# EAGLE library part DIL08 (library arno)
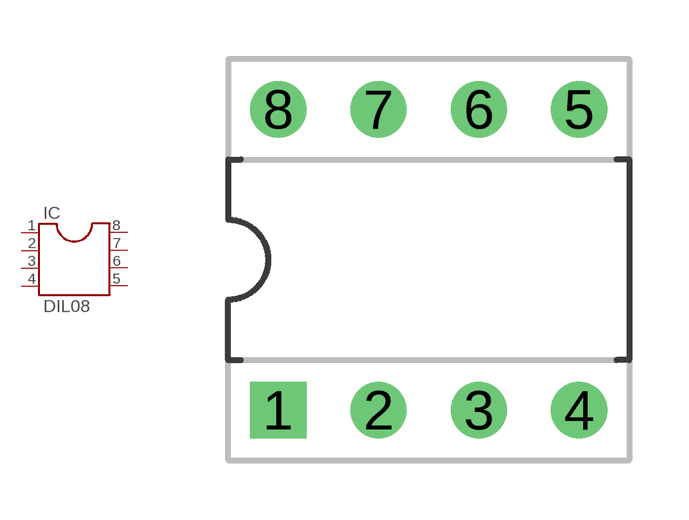
[diagram p1: symbol with the pads of SOCKET-DIL08; footprint SOCKET-DIL08]

Designator prefix IC

## DIL08  [SOCKET-DIL08]
1  1  pas
2  2  pas
3  3  pas
4  4  pas
5  5  pas
6  6  pas
7  7  pas
8  8  pas

## Footprint SOCKET-DIL08 (pad centres in mm)
drill 0.813 pad 1.422 square: 1 -3.81,-3.81
drill 0.813 pad 1.422: 2 -1.27,-3.81; 3 1.27,-3.81; 4 3.81,-3.81; 5 3.81,3.81; 6 1.27,3.81; 7 -1.27,3.81; 8 -3.81,3.81